# Altium integrated library Vishay Vitramon Ceramic Dipped Capacitor.IntLib: 3117 symbols (part 4 of 35)
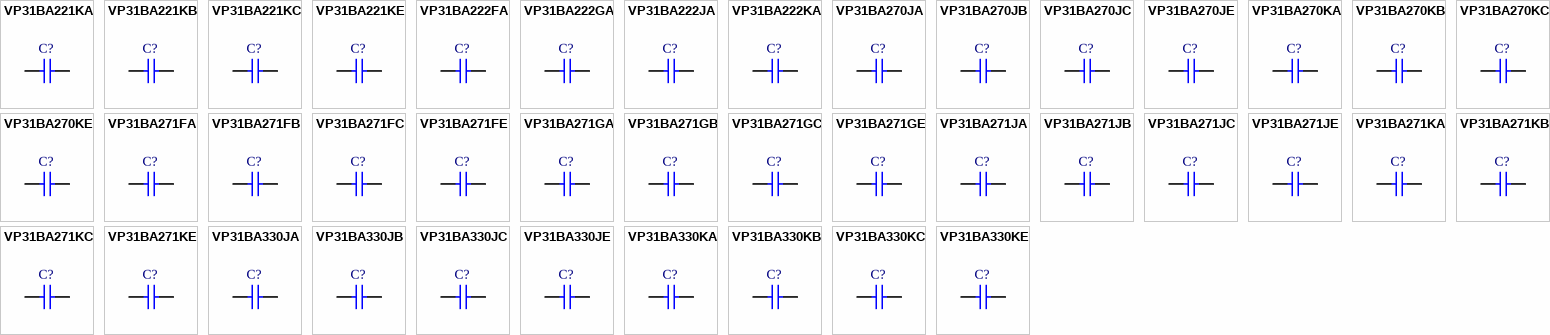
[diagram p80: symbols VP31BA221KA to VP31BA330KE]

## VP31BA271KA
designator C?
Dipped Radial Multilayer Ceramic Capacitor COG (NPO): 270pF, 50/63V; Note: See Datasheet for other packages & tolerances; Published: 17-Dec-2003; DatasheetDocument: 2-Jan-2002; PackageDocument: 8-Feb-2002; PackageReference: VP31-2.5; Publisher: Altium Limited; ComponentLink1Description: Manufacturer Link; ComponentLink1URL: http://www.vishay.com/; Value: 270pF
footprint VP31-2.5 (Capacitor, Ceramic, Thru-Hole, Dipped Radial; Body 4 x 2.5 mm (WxT) Pin Spacing 2.54 mm (typ))
simulation model CAP (Capacitor)
signal-integrity model Cap
pins: 1, 2

## VP31BA271KB
designator C?
Dipped Radial Multilayer Ceramic Capacitor COG (NPO): 270pF, 100V; Note: See Datasheet for other packages & tolerances; Published: 17-Dec-2003; DatasheetDocument: 2-Jan-2002; PackageDocument: 8-Feb-2002; PackageReference: VP31-2.5; Publisher: Altium Limited; ComponentLink1Description: Manufacturer Link; ComponentLink1URL: http://www.vishay.com/; Value: 270pF
footprint VP31-2.5 (Capacitor, Ceramic, Thru-Hole, Dipped Radial; Body 4 x 2.5 mm (WxT) Pin Spacing 2.54 mm (typ))
simulation model CAP (Capacitor)
signal-integrity model Cap
pins: 1, 2

## VP31BA271KC
designator C?
Dipped Radial Multilayer Ceramic Capacitor COG (NPO): 270pF, 200V; Published: 17-Dec-2003; DatasheetDocument: 7-Jan-2002; PackageDocument: 7-Jan-2002; PackageReference: VP31-3.2; Publisher: Altium Limited; ComponentLink1Description: Manufacturer Link; ComponentLink1URL: http://www.vishay.com/; Value: 270pF
footprint VP31-3.2 (Capacitor, Ceramic, Thru-Hole, Dipped Radial; Body 4 x 3.2 mm (WxT) Pin Spacing 2.54 mm (typ))
simulation model CAP (Capacitor)
signal-integrity model Cap
pins: 1, 2

## VP31BA271KE
designator C?
Dipped Radial Multilayer Ceramic Capacitor COG (NPO): 270pF, 500V; Published: 17-Dec-2003; DatasheetDocument: 7-Jan-2002; PackageDocument: 7-Jan-2002; PackageReference: VP31-3.2; Publisher: Altium Limited; ComponentLink1Description: Manufacturer Link; ComponentLink1URL: http://www.vishay.com/; Value: 270pF
footprint VP31-3.2 (Capacitor, Ceramic, Thru-Hole, Dipped Radial; Body 4 x 3.2 mm (WxT) Pin Spacing 2.54 mm (typ))
simulation model CAP (Capacitor)
signal-integrity model Cap
pins: 1, 2

## VP31BA330JA
designator C?
Dipped Radial Multilayer Ceramic Capacitor COG (NPO): 33pF, 50/63V; Note: See Datasheet for other packages & tolerances; Published: 17-Dec-2003; DatasheetDocument: 2-Jan-2002; PackageDocument: 8-Feb-2002; PackageReference: VP31-2.5; Publisher: Altium Limited; ComponentLink1Description: Manufacturer Link; ComponentLink1URL: http://www.vishay.com/; Value: 33pF
footprint VP31-2.5 (Capacitor, Ceramic, Thru-Hole, Dipped Radial; Body 4 x 2.5 mm (WxT) Pin Spacing 2.54 mm (typ))
simulation model CAP (Capacitor)
signal-integrity model Cap
pins: 1, 2

## VP31BA330JB
designator C?
Dipped Radial Multilayer Ceramic Capacitor COG (NPO): 33pF, 100V; Note: See Datasheet for other packages & tolerances; Published: 17-Dec-2003; DatasheetDocument: 2-Jan-2002; PackageDocument: 8-Feb-2002; PackageReference: VP31-2.5; Publisher: Altium Limited; ComponentLink1Description: Manufacturer Link; ComponentLink1URL: http://www.vishay.com/; Value: 33pF
footprint VP31-2.5 (Capacitor, Ceramic, Thru-Hole, Dipped Radial; Body 4 x 2.5 mm (WxT) Pin Spacing 2.54 mm (typ))
simulation model CAP (Capacitor)
signal-integrity model Cap
pins: 1, 2

## VP31BA330JC
designator C?
Dipped Radial Multilayer Ceramic Capacitor COG (NPO): 33pF, 200V; Published: 17-Dec-2003; DatasheetDocument: 7-Jan-2002; PackageDocument: 7-Jan-2002; PackageReference: VP31-3.2; Publisher: Altium Limited; ComponentLink1Description: Manufacturer Link; ComponentLink1URL: http://www.vishay.com/; Value: 33pF
footprint VP31-3.2 (Capacitor, Ceramic, Thru-Hole, Dipped Radial; Body 4 x 3.2 mm (WxT) Pin Spacing 2.54 mm (typ))
simulation model CAP (Capacitor)
signal-integrity model Cap
pins: 1, 2

## VP31BA330JE
designator C?
Dipped Radial Multilayer Ceramic Capacitor COG (NPO): 33pF, 500V; Published: 17-Dec-2003; DatasheetDocument: 7-Jan-2002; PackageDocument: 7-Jan-2002; PackageReference: VP31-3.2; Publisher: Altium Limited; ComponentLink1Description: Manufacturer Link; ComponentLink1URL: http://www.vishay.com/; Value: 33pF
footprint VP31-3.2 (Capacitor, Ceramic, Thru-Hole, Dipped Radial; Body 4 x 3.2 mm (WxT) Pin Spacing 2.54 mm (typ))
simulation model CAP (Capacitor)
signal-integrity model Cap
pins: 1, 2

## VP31BA330KA
designator C?
Dipped Radial Multilayer Ceramic Capacitor COG (NPO): 33pF, 50/63V; Note: See Datasheet for other packages & tolerances; Published: 17-Dec-2003; DatasheetDocument: 2-Jan-2002; PackageDocument: 8-Feb-2002; PackageReference: VP31-2.5; Publisher: Altium Limited; ComponentLink1Description: Manufacturer Link; ComponentLink1URL: http://www.vishay.com/; Value: 33pF
footprint VP31-2.5 (Capacitor, Ceramic, Thru-Hole, Dipped Radial; Body 4 x 2.5 mm (WxT) Pin Spacing 2.54 mm (typ))
simulation model CAP (Capacitor)
signal-integrity model Cap
pins: 1, 2

## VP31BA330KB
designator C?
Dipped Radial Multilayer Ceramic Capacitor COG (NPO): 33pF, 100V; Note: See Datasheet for other packages & tolerances; Published: 17-Dec-2003; DatasheetDocument: 2-Jan-2002; PackageDocument: 8-Feb-2002; PackageReference: VP31-2.5; Publisher: Altium Limited; ComponentLink1Description: Manufacturer Link; ComponentLink1URL: http://www.vishay.com/; Value: 33pF
footprint VP31-2.5 (Capacitor, Ceramic, Thru-Hole, Dipped Radial; Body 4 x 2.5 mm (WxT) Pin Spacing 2.54 mm (typ))
simulation model CAP (Capacitor)
signal-integrity model Cap
pins: 1, 2

## VP31BA330KC
designator C?
Dipped Radial Multilayer Ceramic Capacitor COG (NPO): 33pF, 200V; Published: 17-Dec-2003; DatasheetDocument: 7-Jan-2002; PackageDocument: 7-Jan-2002; PackageReference: VP31-3.2; Publisher: Altium Limited; ComponentLink1Description: Manufacturer Link; ComponentLink1URL: http://www.vishay.com/; Value: 33pF
footprint VP31-3.2 (Capacitor, Ceramic, Thru-Hole, Dipped Radial; Body 4 x 3.2 mm (WxT) Pin Spacing 2.54 mm (typ))
simulation model CAP (Capacitor)
signal-integrity model Cap
pins: 1, 2

## VP31BA330KE
designator C?
Dipped Radial Multilayer Ceramic Capacitor COG (NPO): 33pF, 500V; Published: 17-Dec-2003; DatasheetDocument: 7-Jan-2002; PackageDocument: 7-Jan-2002; PackageReference: VP31-3.2; Publisher: Altium Limited; ComponentLink1Description: Manufacturer Link; ComponentLink1URL: http://www.vishay.com/; Value: 33pF
footprint VP31-3.2 (Capacitor, Ceramic, Thru-Hole, Dipped Radial; Body 4 x 3.2 mm (WxT) Pin Spacing 2.54 mm (typ))
simulation model CAP (Capacitor)
signal-integrity model Cap
pins: 1, 2

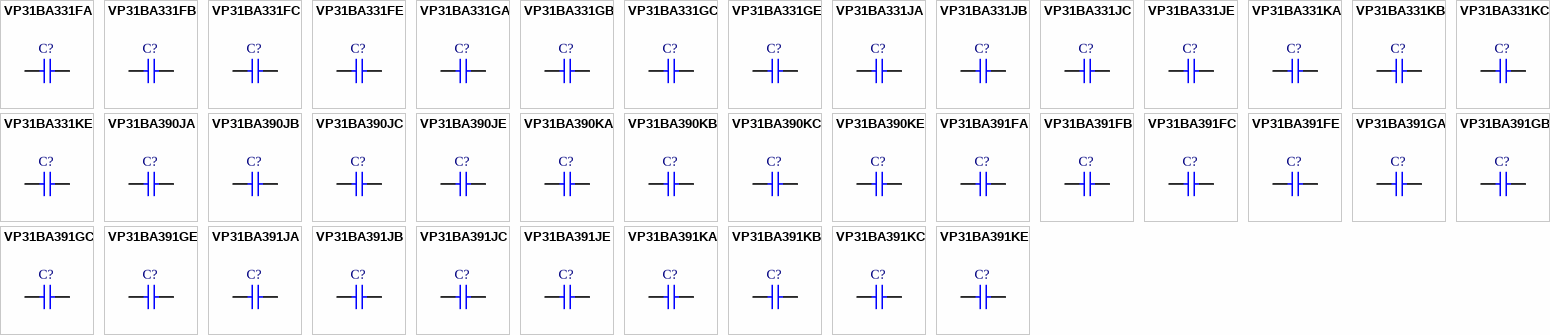
[diagram p7: symbols VP31BA331FA to VP31BA391KE]

## VP31BA331FA
designator C?
Dipped Radial Multilayer Ceramic Capacitor COG (NPO): 330pF, 50/63V; Note: See Datasheet for other packages & tolerances; Published: 17-Dec-2003; DatasheetDocument: 2-Jan-2002; PackageDocument: 8-Feb-2002; PackageReference: VP31-2.5; Publisher: Altium Limited; ComponentLink1Description: Manufacturer Link; ComponentLink1URL: http://www.vishay.com/; Value: 330pF
footprint VP31-2.5 (Capacitor, Ceramic, Thru-Hole, Dipped Radial; Body 4 x 2.5 mm (WxT) Pin Spacing 2.54 mm (typ))
simulation model CAP (Capacitor)
signal-integrity model Cap
pins: 1, 2

## VP31BA331FB
designator C?
Dipped Radial Multilayer Ceramic Capacitor COG (NPO): 330pF, 100V; Note: See Datasheet for other packages & tolerances; Published: 17-Dec-2003; DatasheetDocument: 2-Jan-2002; PackageDocument: 8-Feb-2002; PackageReference: VP31-2.5; Publisher: Altium Limited; ComponentLink1Description: Manufacturer Link; ComponentLink1URL: http://www.vishay.com/; Value: 330pF
footprint VP31-2.5 (Capacitor, Ceramic, Thru-Hole, Dipped Radial; Body 4 x 2.5 mm (WxT) Pin Spacing 2.54 mm (typ))
simulation model CAP (Capacitor)
signal-integrity model Cap
pins: 1, 2

## VP31BA331FC
designator C?
Dipped Radial Multilayer Ceramic Capacitor COG (NPO): 330pF, 200V; Published: 17-Dec-2003; DatasheetDocument: 7-Jan-2002; PackageDocument: 7-Jan-2002; PackageReference: VP31-3.2; Publisher: Altium Limited; ComponentLink1Description: Manufacturer Link; ComponentLink1URL: http://www.vishay.com/; Value: 330pF
footprint VP31-3.2 (Capacitor, Ceramic, Thru-Hole, Dipped Radial; Body 4 x 3.2 mm (WxT) Pin Spacing 2.54 mm (typ))
simulation model CAP (Capacitor)
signal-integrity model Cap
pins: 1, 2

## VP31BA331FE
designator C?
Dipped Radial Multilayer Ceramic Capacitor COG (NPO): 330pF, 500V; Published: 17-Dec-2003; DatasheetDocument: 7-Jan-2002; PackageDocument: 7-Jan-2002; PackageReference: VP31-3.2; Publisher: Altium Limited; ComponentLink1Description: Manufacturer Link; ComponentLink1URL: http://www.vishay.com/; Value: 330pF
footprint VP31-3.2 (Capacitor, Ceramic, Thru-Hole, Dipped Radial; Body 4 x 3.2 mm (WxT) Pin Spacing 2.54 mm (typ))
simulation model CAP (Capacitor)
signal-integrity model Cap
pins: 1, 2

## VP31BA331GA
designator C?
Dipped Radial Multilayer Ceramic Capacitor COG (NPO): 330pF, 50/63V; Note: See Datasheet for other packages & tolerances; Published: 17-Dec-2003; DatasheetDocument: 2-Jan-2002; PackageDocument: 8-Feb-2002; PackageReference: VP31-2.5; Publisher: Altium Limited; ComponentLink1Description: Manufacturer Link; ComponentLink1URL: http://www.vishay.com/; Value: 330pF
footprint VP31-2.5 (Capacitor, Ceramic, Thru-Hole, Dipped Radial; Body 4 x 2.5 mm (WxT) Pin Spacing 2.54 mm (typ))
simulation model CAP (Capacitor)
signal-integrity model Cap
pins: 1, 2

## VP31BA331GB
designator C?
Dipped Radial Multilayer Ceramic Capacitor COG (NPO): 330pF, 100V; Note: See Datasheet for other packages & tolerances; Published: 17-Dec-2003; DatasheetDocument: 2-Jan-2002; PackageDocument: 8-Feb-2002; PackageReference: VP31-2.5; Publisher: Altium Limited; ComponentLink1Description: Manufacturer Link; ComponentLink1URL: http://www.vishay.com/; Value: 330pF
footprint VP31-2.5 (Capacitor, Ceramic, Thru-Hole, Dipped Radial; Body 4 x 2.5 mm (WxT) Pin Spacing 2.54 mm (typ))
simulation model CAP (Capacitor)
signal-integrity model Cap
pins: 1, 2

## VP31BA331GC
designator C?
Dipped Radial Multilayer Ceramic Capacitor COG (NPO): 330pF, 200V; Published: 17-Dec-2003; DatasheetDocument: 7-Jan-2002; PackageDocument: 7-Jan-2002; PackageReference: VP31-3.2; Publisher: Altium Limited; ComponentLink1Description: Manufacturer Link; ComponentLink1URL: http://www.vishay.com/; Value: 330pF
footprint VP31-3.2 (Capacitor, Ceramic, Thru-Hole, Dipped Radial; Body 4 x 3.2 mm (WxT) Pin Spacing 2.54 mm (typ))
simulation model CAP (Capacitor)
signal-integrity model Cap
pins: 1, 2

## VP31BA331GE
designator C?
Dipped Radial Multilayer Ceramic Capacitor COG (NPO): 330pF, 500V; Published: 17-Dec-2003; DatasheetDocument: 7-Jan-2002; PackageDocument: 7-Jan-2002; PackageReference: VP31-3.2; Publisher: Altium Limited; ComponentLink1Description: Manufacturer Link; ComponentLink1URL: http://www.vishay.com/; Value: 330pF
footprint VP31-3.2 (Capacitor, Ceramic, Thru-Hole, Dipped Radial; Body 4 x 3.2 mm (WxT) Pin Spacing 2.54 mm (typ))
simulation model CAP (Capacitor)
signal-integrity model Cap
pins: 1, 2

## VP31BA331JA
designator C?
Dipped Radial Multilayer Ceramic Capacitor COG (NPO): 330pF, 50/63V; Note: See Datasheet for other packages & tolerances; Published: 17-Dec-2003; DatasheetDocument: 2-Jan-2002; PackageDocument: 8-Feb-2002; PackageReference: VP31-2.5; Publisher: Altium Limited; ComponentLink1Description: Manufacturer Link; ComponentLink1URL: http://www.vishay.com/; Value: 330pF
footprint VP31-2.5 (Capacitor, Ceramic, Thru-Hole, Dipped Radial; Body 4 x 2.5 mm (WxT) Pin Spacing 2.54 mm (typ))
simulation model CAP (Capacitor)
signal-integrity model Cap
pins: 1, 2

## VP31BA331JB
designator C?
Dipped Radial Multilayer Ceramic Capacitor COG (NPO): 330pF, 100V; Note: See Datasheet for other packages & tolerances; Published: 17-Dec-2003; DatasheetDocument: 2-Jan-2002; PackageDocument: 8-Feb-2002; PackageReference: VP31-2.5; Publisher: Altium Limited; ComponentLink1Description: Manufacturer Link; ComponentLink1URL: http://www.vishay.com/; Value: 330pF
footprint VP31-2.5 (Capacitor, Ceramic, Thru-Hole, Dipped Radial; Body 4 x 2.5 mm (WxT) Pin Spacing 2.54 mm (typ))
simulation model CAP (Capacitor)
signal-integrity model Cap
pins: 1, 2

## VP31BA331JC
designator C?
Dipped Radial Multilayer Ceramic Capacitor COG (NPO): 330pF, 200V; Published: 17-Dec-2003; DatasheetDocument: 7-Jan-2002; PackageDocument: 7-Jan-2002; PackageReference: VP31-3.2; Publisher: Altium Limited; ComponentLink1Description: Manufacturer Link; ComponentLink1URL: http://www.vishay.com/; Value: 330pF
footprint VP31-3.2 (Capacitor, Ceramic, Thru-Hole, Dipped Radial; Body 4 x 3.2 mm (WxT) Pin Spacing 2.54 mm (typ))
simulation model CAP (Capacitor)
signal-integrity model Cap
pins: 1, 2

## VP31BA331JE
designator C?
Dipped Radial Multilayer Ceramic Capacitor COG (NPO): 330pF, 500V; Published: 17-Dec-2003; DatasheetDocument: 7-Jan-2002; PackageDocument: 7-Jan-2002; PackageReference: VP31-3.2; Publisher: Altium Limited; ComponentLink1Description: Manufacturer Link; ComponentLink1URL: http://www.vishay.com/; Value: 330pF
footprint VP31-3.2 (Capacitor, Ceramic, Thru-Hole, Dipped Radial; Body 4 x 3.2 mm (WxT) Pin Spacing 2.54 mm (typ))
simulation model CAP (Capacitor)
signal-integrity model Cap
pins: 1, 2

## VP31BA331KA
designator C?
Dipped Radial Multilayer Ceramic Capacitor COG (NPO): 330pF, 50/63V; Note: See Datasheet for other packages & tolerances; Published: 17-Dec-2003; DatasheetDocument: 2-Jan-2002; PackageDocument: 8-Feb-2002; PackageReference: VP31-2.5; Publisher: Altium Limited; ComponentLink1Description: Manufacturer Link; ComponentLink1URL: http://www.vishay.com/; Value: 330pF
footprint VP31-2.5 (Capacitor, Ceramic, Thru-Hole, Dipped Radial; Body 4 x 2.5 mm (WxT) Pin Spacing 2.54 mm (typ))
simulation model CAP (Capacitor)
signal-integrity model Cap
pins: 1, 2

## VP31BA331KB
designator C?
Dipped Radial Multilayer Ceramic Capacitor COG (NPO): 330pF, 100V; Note: See Datasheet for other packages & tolerances; Published: 17-Dec-2003; DatasheetDocument: 2-Jan-2002; PackageDocument: 8-Feb-2002; PackageReference: VP31-2.5; Publisher: Altium Limited; ComponentLink1Description: Manufacturer Link; ComponentLink1URL: http://www.vishay.com/; Value: 330pF
footprint VP31-2.5 (Capacitor, Ceramic, Thru-Hole, Dipped Radial; Body 4 x 2.5 mm (WxT) Pin Spacing 2.54 mm (typ))
simulation model CAP (Capacitor)
signal-integrity model Cap
pins: 1, 2

## VP31BA331KC
designator C?
Dipped Radial Multilayer Ceramic Capacitor COG (NPO): 330pF, 200V; Published: 17-Dec-2003; DatasheetDocument: 7-Jan-2002; PackageDocument: 7-Jan-2002; PackageReference: VP31-3.2; Publisher: Altium Limited; ComponentLink1Description: Manufacturer Link; ComponentLink1URL: http://www.vishay.com/; Value: 330pF
footprint VP31-3.2 (Capacitor, Ceramic, Thru-Hole, Dipped Radial; Body 4 x 3.2 mm (WxT) Pin Spacing 2.54 mm (typ))
simulation model CAP (Capacitor)
signal-integrity model Cap
pins: 1, 2

## VP31BA331KE
designator C?
Dipped Radial Multilayer Ceramic Capacitor COG (NPO): 330pF, 500V; Published: 17-Dec-2003; DatasheetDocument: 7-Jan-2002; PackageDocument: 7-Jan-2002; PackageReference: VP31-3.2; Publisher: Altium Limited; ComponentLink1Description: Manufacturer Link; ComponentLink1URL: http://www.vishay.com/; Value: 330pF
footprint VP31-3.2 (Capacitor, Ceramic, Thru-Hole, Dipped Radial; Body 4 x 3.2 mm (WxT) Pin Spacing 2.54 mm (typ))
simulation model CAP (Capacitor)
signal-integrity model Cap
pins: 1, 2

## VP31BA390JA
designator C?
Dipped Radial Multilayer Ceramic Capacitor COG (NPO): 39pF, 50/63V; Note: See Datasheet for other packages & tolerances; Published: 17-Dec-2003; DatasheetDocument: 2-Jan-2002; PackageDocument: 8-Feb-2002; PackageReference: VP31-2.5; Publisher: Altium Limited; ComponentLink1Description: Manufacturer Link; ComponentLink1URL: http://www.vishay.com/; Value: 39pF
footprint VP31-2.5 (Capacitor, Ceramic, Thru-Hole, Dipped Radial; Body 4 x 2.5 mm (WxT) Pin Spacing 2.54 mm (typ))
simulation model CAP (Capacitor)
signal-integrity model Cap
pins: 1, 2

## VP31BA390JB
designator C?
Dipped Radial Multilayer Ceramic Capacitor COG (NPO): 39pF, 100V; Note: See Datasheet for other packages & tolerances; Published: 17-Dec-2003; DatasheetDocument: 2-Jan-2002; PackageDocument: 8-Feb-2002; PackageReference: VP31-2.5; Publisher: Altium Limited; ComponentLink1Description: Manufacturer Link; ComponentLink1URL: http://www.vishay.com/; Value: 39pF
footprint VP31-2.5 (Capacitor, Ceramic, Thru-Hole, Dipped Radial; Body 4 x 2.5 mm (WxT) Pin Spacing 2.54 mm (typ))
simulation model CAP (Capacitor)
signal-integrity model Cap
pins: 1, 2

## VP31BA390JC
designator C?
Dipped Radial Multilayer Ceramic Capacitor COG (NPO): 39pF, 200V; Published: 17-Dec-2003; DatasheetDocument: 7-Jan-2002; PackageDocument: 7-Jan-2002; PackageReference: VP31-3.2; Publisher: Altium Limited; ComponentLink1Description: Manufacturer Link; ComponentLink1URL: http://www.vishay.com/; Value: 39pF
footprint VP31-3.2 (Capacitor, Ceramic, Thru-Hole, Dipped Radial; Body 4 x 3.2 mm (WxT) Pin Spacing 2.54 mm (typ))
simulation model CAP (Capacitor)
signal-integrity model Cap
pins: 1, 2

## VP31BA390JE
designator C?
Dipped Radial Multilayer Ceramic Capacitor COG (NPO): 39pF, 500V; Published: 17-Dec-2003; DatasheetDocument: 7-Jan-2002; PackageDocument: 7-Jan-2002; PackageReference: VP31-3.2; Publisher: Altium Limited; ComponentLink1Description: Manufacturer Link; ComponentLink1URL: http://www.vishay.com/; Value: 39pF
footprint VP31-3.2 (Capacitor, Ceramic, Thru-Hole, Dipped Radial; Body 4 x 3.2 mm (WxT) Pin Spacing 2.54 mm (typ))
simulation model CAP (Capacitor)
signal-integrity model Cap
pins: 1, 2

## VP31BA390KA
designator C?
Dipped Radial Multilayer Ceramic Capacitor COG (NPO): 39pF, 50/63V; Note: See Datasheet for other packages & tolerances; Published: 17-Dec-2003; DatasheetDocument: 2-Jan-2002; PackageDocument: 8-Feb-2002; PackageReference: VP31-2.5; Publisher: Altium Limited; ComponentLink1Description: Manufacturer Link; ComponentLink1URL: http://www.vishay.com/; Value: 39pF
footprint VP31-2.5 (Capacitor, Ceramic, Thru-Hole, Dipped Radial; Body 4 x 2.5 mm (WxT) Pin Spacing 2.54 mm (typ))
simulation model CAP (Capacitor)
signal-integrity model Cap
pins: 1, 2

## VP31BA390KB
designator C?
Dipped Radial Multilayer Ceramic Capacitor COG (NPO): 39pF, 100V; Note: See Datasheet for other packages & tolerances; Published: 17-Dec-2003; DatasheetDocument: 2-Jan-2002; PackageDocument: 8-Feb-2002; PackageReference: VP31-2.5; Publisher: Altium Limited; ComponentLink1Description: Manufacturer Link; ComponentLink1URL: http://www.vishay.com/; Value: 39pF
footprint VP31-2.5 (Capacitor, Ceramic, Thru-Hole, Dipped Radial; Body 4 x 2.5 mm (WxT) Pin Spacing 2.54 mm (typ))
simulation model CAP (Capacitor)
signal-integrity model Cap
pins: 1, 2

## VP31BA390KC
designator C?
Dipped Radial Multilayer Ceramic Capacitor COG (NPO): 39pF, 200V; Published: 17-Dec-2003; DatasheetDocument: 7-Jan-2002; PackageDocument: 7-Jan-2002; PackageReference: VP31-3.2; Publisher: Altium Limited; ComponentLink1Description: Manufacturer Link; ComponentLink1URL: http://www.vishay.com/; Value: 39pF
footprint VP31-3.2 (Capacitor, Ceramic, Thru-Hole, Dipped Radial; Body 4 x 3.2 mm (WxT) Pin Spacing 2.54 mm (typ))
simulation model CAP (Capacitor)
signal-integrity model Cap
pins: 1, 2

## VP31BA390KE
designator C?
Dipped Radial Multilayer Ceramic Capacitor COG (NPO): 39pF, 500V; Published: 17-Dec-2003; DatasheetDocument: 7-Jan-2002; PackageDocument: 7-Jan-2002; PackageReference: VP31-3.2; Publisher: Altium Limited; ComponentLink1Description: Manufacturer Link; ComponentLink1URL: http://www.vishay.com/; Value: 39pF
footprint VP31-3.2 (Capacitor, Ceramic, Thru-Hole, Dipped Radial; Body 4 x 3.2 mm (WxT) Pin Spacing 2.54 mm (typ))
simulation model CAP (Capacitor)
signal-integrity model Cap
pins: 1, 2

## VP31BA391FA
designator C?
Dipped Radial Multilayer Ceramic Capacitor COG (NPO): 390pF, 50/63V; Note: See Datasheet for other packages & tolerances; Published: 17-Dec-2003; DatasheetDocument: 2-Jan-2002; PackageDocument: 8-Feb-2002; PackageReference: VP31-2.5; Publisher: Altium Limited; ComponentLink1Description: Manufacturer Link; ComponentLink1URL: http://www.vishay.com/; Value: 390pF
footprint VP31-2.5 (Capacitor, Ceramic, Thru-Hole, Dipped Radial; Body 4 x 2.5 mm (WxT) Pin Spacing 2.54 mm (typ))
simulation model CAP (Capacitor)
signal-integrity model Cap
pins: 1, 2

## VP31BA391FB
designator C?
Dipped Radial Multilayer Ceramic Capacitor COG (NPO): 390pF, 100V; Note: See Datasheet for other packages & tolerances; Published: 17-Dec-2003; DatasheetDocument: 2-Jan-2002; PackageDocument: 8-Feb-2002; PackageReference: VP31-2.5; Publisher: Altium Limited; ComponentLink1Description: Manufacturer Link; ComponentLink1URL: http://www.vishay.com/; Value: 390pF
footprint VP31-2.5 (Capacitor, Ceramic, Thru-Hole, Dipped Radial; Body 4 x 2.5 mm (WxT) Pin Spacing 2.54 mm (typ))
simulation model CAP (Capacitor)
signal-integrity model Cap
pins: 1, 2

## VP31BA391FC
designator C?
Dipped Radial Multilayer Ceramic Capacitor COG (NPO): 390pF, 200V; Published: 17-Dec-2003; DatasheetDocument: 7-Jan-2002; PackageDocument: 7-Jan-2002; PackageReference: VP31-3.2; Publisher: Altium Limited; ComponentLink1Description: Manufacturer Link; ComponentLink1URL: http://www.vishay.com/; Value: 390pF
footprint VP31-3.2 (Capacitor, Ceramic, Thru-Hole, Dipped Radial; Body 4 x 3.2 mm (WxT) Pin Spacing 2.54 mm (typ))
simulation model CAP (Capacitor)
signal-integrity model Cap
pins: 1, 2

## VP31BA391FE
designator C?
Dipped Radial Multilayer Ceramic Capacitor COG (NPO): 390pF, 500V; Published: 17-Dec-2003; DatasheetDocument: 7-Jan-2002; PackageDocument: 7-Jan-2002; PackageReference: VP31-3.2; Publisher: Altium Limited; ComponentLink1Description: Manufacturer Link; ComponentLink1URL: http://www.vishay.com/; Value: 390pF
footprint VP31-3.2 (Capacitor, Ceramic, Thru-Hole, Dipped Radial; Body 4 x 3.2 mm (WxT) Pin Spacing 2.54 mm (typ))
simulation model CAP (Capacitor)
signal-integrity model Cap
pins: 1, 2

## VP31BA391GA
designator C?
Dipped Radial Multilayer Ceramic Capacitor COG (NPO): 390pF, 50/63V; Note: See Datasheet for other packages & tolerances; Published: 17-Dec-2003; DatasheetDocument: 2-Jan-2002; PackageDocument: 8-Feb-2002; PackageReference: VP31-2.5; Publisher: Altium Limited; ComponentLink1Description: Manufacturer Link; ComponentLink1URL: http://www.vishay.com/; Value: 390pF
footprint VP31-2.5 (Capacitor, Ceramic, Thru-Hole, Dipped Radial; Body 4 x 2.5 mm (WxT) Pin Spacing 2.54 mm (typ))
simulation model CAP (Capacitor)
signal-integrity model Cap
pins: 1, 2

## VP31BA391GB
designator C?
Dipped Radial Multilayer Ceramic Capacitor COG (NPO): 390pF, 100V; Note: See Datasheet for other packages & tolerances; Published: 17-Dec-2003; DatasheetDocument: 2-Jan-2002; PackageDocument: 8-Feb-2002; PackageReference: VP31-2.5; Publisher: Altium Limited; ComponentLink1Description: Manufacturer Link; ComponentLink1URL: http://www.vishay.com/; Value: 390pF
footprint VP31-2.5 (Capacitor, Ceramic, Thru-Hole, Dipped Radial; Body 4 x 2.5 mm (WxT) Pin Spacing 2.54 mm (typ))
simulation model CAP (Capacitor)
signal-integrity model Cap
pins: 1, 2

## VP31BA391GC
designator C?
Dipped Radial Multilayer Ceramic Capacitor COG (NPO): 390pF, 200V; Published: 17-Dec-2003; DatasheetDocument: 7-Jan-2002; PackageDocument: 7-Jan-2002; PackageReference: VP31-3.2; Publisher: Altium Limited; ComponentLink1Description: Manufacturer Link; ComponentLink1URL: http://www.vishay.com/; Value: 390pF
footprint VP31-3.2 (Capacitor, Ceramic, Thru-Hole, Dipped Radial; Body 4 x 3.2 mm (WxT) Pin Spacing 2.54 mm (typ))
simulation model CAP (Capacitor)
signal-integrity model Cap
pins: 1, 2

## VP31BA391GE
designator C?
Dipped Radial Multilayer Ceramic Capacitor COG (NPO): 390pF, 500V; Published: 17-Dec-2003; DatasheetDocument: 7-Jan-2002; PackageDocument: 7-Jan-2002; PackageReference: VP31-3.2; Publisher: Altium Limited; ComponentLink1Description: Manufacturer Link; ComponentLink1URL: http://www.vishay.com/; Value: 390pF
footprint VP31-3.2 (Capacitor, Ceramic, Thru-Hole, Dipped Radial; Body 4 x 3.2 mm (WxT) Pin Spacing 2.54 mm (typ))
simulation model CAP (Capacitor)
signal-integrity model Cap
pins: 1, 2

## VP31BA391JA
designator C?
Dipped Radial Multilayer Ceramic Capacitor COG (NPO): 390pF, 50/63V; Note: See Datasheet for other packages & tolerances; Published: 17-Dec-2003; DatasheetDocument: 2-Jan-2002; PackageDocument: 8-Feb-2002; PackageReference: VP31-2.5; Publisher: Altium Limited; ComponentLink1Description: Manufacturer Link; ComponentLink1URL: http://www.vishay.com/; Value: 390pF
footprint VP31-2.5 (Capacitor, Ceramic, Thru-Hole, Dipped Radial; Body 4 x 2.5 mm (WxT) Pin Spacing 2.54 mm (typ))
simulation model CAP (Capacitor)
signal-integrity model Cap
pins: 1, 2

## VP31BA391JB
designator C?
Dipped Radial Multilayer Ceramic Capacitor COG (NPO): 390pF, 100V; Note: See Datasheet for other packages & tolerances; Published: 17-Dec-2003; DatasheetDocument: 2-Jan-2002; PackageDocument: 8-Feb-2002; PackageReference: VP31-2.5; Publisher: Altium Limited; ComponentLink1Description: Manufacturer Link; ComponentLink1URL: http://www.vishay.com/; Value: 390pF
footprint VP31-2.5 (Capacitor, Ceramic, Thru-Hole, Dipped Radial; Body 4 x 2.5 mm (WxT) Pin Spacing 2.54 mm (typ))
simulation model CAP (Capacitor)
signal-integrity model Cap
pins: 1, 2

## VP31BA391JC
designator C?
Dipped Radial Multilayer Ceramic Capacitor COG (NPO): 390pF, 200V; Published: 17-Dec-2003; DatasheetDocument: 7-Jan-2002; PackageDocument: 7-Jan-2002; PackageReference: VP31-3.2; Publisher: Altium Limited; ComponentLink1Description: Manufacturer Link; ComponentLink1URL: http://www.vishay.com/; Value: 390pF
footprint VP31-3.2 (Capacitor, Ceramic, Thru-Hole, Dipped Radial; Body 4 x 3.2 mm (WxT) Pin Spacing 2.54 mm (typ))
simulation model CAP (Capacitor)
signal-integrity model Cap
pins: 1, 2

## VP31BA391JE
designator C?
Dipped Radial Multilayer Ceramic Capacitor COG (NPO): 390pF, 500V; Published: 17-Dec-2003; DatasheetDocument: 7-Jan-2002; PackageDocument: 7-Jan-2002; PackageReference: VP31-3.2; Publisher: Altium Limited; ComponentLink1Description: Manufacturer Link; ComponentLink1URL: http://www.vishay.com/; Value: 390pF
footprint VP31-3.2 (Capacitor, Ceramic, Thru-Hole, Dipped Radial; Body 4 x 3.2 mm (WxT) Pin Spacing 2.54 mm (typ))
simulation model CAP (Capacitor)
signal-integrity model Cap
pins: 1, 2

## VP31BA391KA
designator C?
Dipped Radial Multilayer Ceramic Capacitor COG (NPO): 390pF, 50/63V; Note: See Datasheet for other packages & tolerances; Published: 17-Dec-2003; DatasheetDocument: 2-Jan-2002; PackageDocument: 8-Feb-2002; PackageReference: VP31-2.5; Publisher: Altium Limited; ComponentLink1Description: Manufacturer Link; ComponentLink1URL: http://www.vishay.com/; Value: 390pF
footprint VP31-2.5 (Capacitor, Ceramic, Thru-Hole, Dipped Radial; Body 4 x 2.5 mm (WxT) Pin Spacing 2.54 mm (typ))
simulation model CAP (Capacitor)
signal-integrity model Cap
pins: 1, 2

## VP31BA391KB
designator C?
Dipped Radial Multilayer Ceramic Capacitor COG (NPO): 390pF, 100V; Note: See Datasheet for other packages & tolerances; Published: 17-Dec-2003; DatasheetDocument: 2-Jan-2002; PackageDocument: 8-Feb-2002; PackageReference: VP31-2.5; Publisher: Altium Limited; ComponentLink1Description: Manufacturer Link; ComponentLink1URL: http://www.vishay.com/; Value: 390pF
footprint VP31-2.5 (Capacitor, Ceramic, Thru-Hole, Dipped Radial; Body 4 x 2.5 mm (WxT) Pin Spacing 2.54 mm (typ))
simulation model CAP (Capacitor)
signal-integrity model Cap
pins: 1, 2

## VP31BA391KC
designator C?
Dipped Radial Multilayer Ceramic Capacitor COG (NPO): 390pF, 200V; Published: 17-Dec-2003; DatasheetDocument: 7-Jan-2002; PackageDocument: 7-Jan-2002; PackageReference: VP31-3.2; Publisher: Altium Limited; ComponentLink1Description: Manufacturer Link; ComponentLink1URL: http://www.vishay.com/; Value: 390pF
footprint VP31-3.2 (Capacitor, Ceramic, Thru-Hole, Dipped Radial; Body 4 x 3.2 mm (WxT) Pin Spacing 2.54 mm (typ))
simulation model CAP (Capacitor)
signal-integrity model Cap
pins: 1, 2

## VP31BA391KE
designator C?
Dipped Radial Multilayer Ceramic Capacitor COG (NPO): 390pF, 500V; Published: 17-Dec-2003; DatasheetDocument: 7-Jan-2002; PackageDocument: 7-Jan-2002; PackageReference: VP31-3.2; Publisher: Altium Limited; ComponentLink1Description: Manufacturer Link; ComponentLink1URL: http://www.vishay.com/; Value: 390pF
footprint VP31-3.2 (Capacitor, Ceramic, Thru-Hole, Dipped Radial; Body 4 x 3.2 mm (WxT) Pin Spacing 2.54 mm (typ))
simulation model CAP (Capacitor)
signal-integrity model Cap
pins: 1, 2

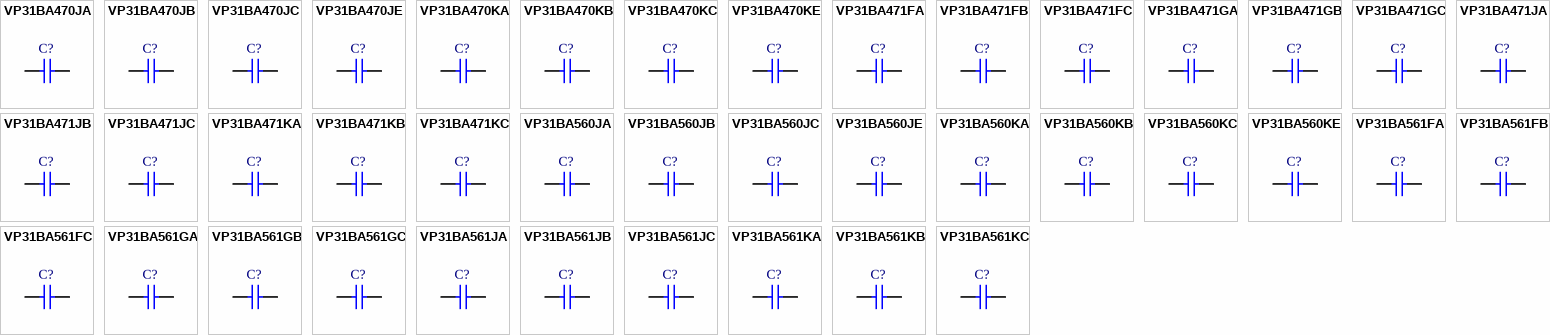
[diagram p8: symbols VP31BA470JA to VP31BA561KC]

## VP31BA470JA
designator C?
Dipped Radial Multilayer Ceramic Capacitor COG (NPO): 47pF, 50/63V; Note: See Datasheet for other packages & tolerances; Published: 17-Dec-2003; DatasheetDocument: 2-Jan-2002; PackageDocument: 8-Feb-2002; PackageReference: VP31-2.5; Publisher: Altium Limited; ComponentLink1Description: Manufacturer Link; ComponentLink1URL: http://www.vishay.com/; Value: 47pF
footprint VP31-2.5 (Capacitor, Ceramic, Thru-Hole, Dipped Radial; Body 4 x 2.5 mm (WxT) Pin Spacing 2.54 mm (typ))
simulation model CAP (Capacitor)
signal-integrity model Cap
pins: 1, 2

## VP31BA470JB
designator C?
Dipped Radial Multilayer Ceramic Capacitor COG (NPO): 47pF, 100V; Note: See Datasheet for other packages & tolerances; Published: 17-Dec-2003; DatasheetDocument: 2-Jan-2002; PackageDocument: 8-Feb-2002; PackageReference: VP31-2.5; Publisher: Altium Limited; ComponentLink1Description: Manufacturer Link; ComponentLink1URL: http://www.vishay.com/; Value: 47pF
footprint VP31-2.5 (Capacitor, Ceramic, Thru-Hole, Dipped Radial; Body 4 x 2.5 mm (WxT) Pin Spacing 2.54 mm (typ))
simulation model CAP (Capacitor)
signal-integrity model Cap
pins: 1, 2

## VP31BA470JC
designator C?
Dipped Radial Multilayer Ceramic Capacitor COG (NPO): 47pF, 200V; Published: 17-Dec-2003; DatasheetDocument: 7-Jan-2002; PackageDocument: 7-Jan-2002; PackageReference: VP31-3.2; Publisher: Altium Limited; ComponentLink1Description: Manufacturer Link; ComponentLink1URL: http://www.vishay.com/; Value: 47pF
footprint VP31-3.2 (Capacitor, Ceramic, Thru-Hole, Dipped Radial; Body 4 x 3.2 mm (WxT) Pin Spacing 2.54 mm (typ))
simulation model CAP (Capacitor)
signal-integrity model Cap
pins: 1, 2

## VP31BA470JE
designator C?
Dipped Radial Multilayer Ceramic Capacitor COG (NPO): 47pF, 500V; Published: 17-Dec-2003; DatasheetDocument: 7-Jan-2002; PackageDocument: 7-Jan-2002; PackageReference: VP31-3.2; Publisher: Altium Limited; ComponentLink1Description: Manufacturer Link; ComponentLink1URL: http://www.vishay.com/; Value: 47pF
footprint VP31-3.2 (Capacitor, Ceramic, Thru-Hole, Dipped Radial; Body 4 x 3.2 mm (WxT) Pin Spacing 2.54 mm (typ))
simulation model CAP (Capacitor)
signal-integrity model Cap
pins: 1, 2

## VP31BA470KA
designator C?
Dipped Radial Multilayer Ceramic Capacitor COG (NPO): 47pF, 50/63V; Note: See Datasheet for other packages & tolerances; Published: 17-Dec-2003; DatasheetDocument: 2-Jan-2002; PackageDocument: 8-Feb-2002; PackageReference: VP31-2.5; Publisher: Altium Limited; ComponentLink1Description: Manufacturer Link; ComponentLink1URL: http://www.vishay.com/; Value: 47pF
footprint VP31-2.5 (Capacitor, Ceramic, Thru-Hole, Dipped Radial; Body 4 x 2.5 mm (WxT) Pin Spacing 2.54 mm (typ))
simulation model CAP (Capacitor)
signal-integrity model Cap
pins: 1, 2

## VP31BA470KB
designator C?
Dipped Radial Multilayer Ceramic Capacitor COG (NPO): 47pF, 100V; Note: See Datasheet for other packages & tolerances; Published: 17-Dec-2003; DatasheetDocument: 2-Jan-2002; PackageDocument: 8-Feb-2002; PackageReference: VP31-2.5; Publisher: Altium Limited; ComponentLink1Description: Manufacturer Link; ComponentLink1URL: http://www.vishay.com/; Value: 47pF
footprint VP31-2.5 (Capacitor, Ceramic, Thru-Hole, Dipped Radial; Body 4 x 2.5 mm (WxT) Pin Spacing 2.54 mm (typ))
simulation model CAP (Capacitor)
signal-integrity model Cap
pins: 1, 2

## VP31BA470KC
designator C?
Dipped Radial Multilayer Ceramic Capacitor COG (NPO): 47pF, 200V; Published: 17-Dec-2003; DatasheetDocument: 7-Jan-2002; PackageDocument: 7-Jan-2002; PackageReference: VP31-3.2; Publisher: Altium Limited; ComponentLink1Description: Manufacturer Link; ComponentLink1URL: http://www.vishay.com/; Value: 47pF
footprint VP31-3.2 (Capacitor, Ceramic, Thru-Hole, Dipped Radial; Body 4 x 3.2 mm (WxT) Pin Spacing 2.54 mm (typ))
simulation model CAP (Capacitor)
signal-integrity model Cap
pins: 1, 2

## VP31BA470KE
designator C?
Dipped Radial Multilayer Ceramic Capacitor COG (NPO): 47pF, 500V; Published: 17-Dec-2003; DatasheetDocument: 7-Jan-2002; PackageDocument: 7-Jan-2002; PackageReference: VP31-3.2; Publisher: Altium Limited; ComponentLink1Description: Manufacturer Link; ComponentLink1URL: http://www.vishay.com/; Value: 47pF
footprint VP31-3.2 (Capacitor, Ceramic, Thru-Hole, Dipped Radial; Body 4 x 3.2 mm (WxT) Pin Spacing 2.54 mm (typ))
simulation model CAP (Capacitor)
signal-integrity model Cap
pins: 1, 2

## VP31BA471FA
designator C?
Dipped Radial Multilayer Ceramic Capacitor COG (NPO): 470pF, 50/63V; Note: See Datasheet for other packages & tolerances; Published: 17-Dec-2003; DatasheetDocument: 2-Jan-2002; PackageDocument: 8-Feb-2002; PackageReference: VP31-2.5; Publisher: Altium Limited; ComponentLink1Description: Manufacturer Link; ComponentLink1URL: http://www.vishay.com/; Value: 470pF
footprint VP31-2.5 (Capacitor, Ceramic, Thru-Hole, Dipped Radial; Body 4 x 2.5 mm (WxT) Pin Spacing 2.54 mm (typ))
simulation model CAP (Capacitor)
signal-integrity model Cap
pins: 1, 2

## VP31BA471FB
designator C?
Dipped Radial Multilayer Ceramic Capacitor COG (NPO): 470pF, 100V; Note: See Datasheet for other packages & tolerances; Published: 17-Dec-2003; DatasheetDocument: 2-Jan-2002; PackageDocument: 8-Feb-2002; PackageReference: VP31-2.5; Publisher: Altium Limited; ComponentLink1Description: Manufacturer Link; ComponentLink1URL: http://www.vishay.com/; Value: 470pF
footprint VP31-2.5 (Capacitor, Ceramic, Thru-Hole, Dipped Radial; Body 4 x 2.5 mm (WxT) Pin Spacing 2.54 mm (typ))
simulation model CAP (Capacitor)
signal-integrity model Cap
pins: 1, 2

## VP31BA471FC
designator C?
Dipped Radial Multilayer Ceramic Capacitor COG (NPO): 470pF, 200V; Published: 17-Dec-2003; DatasheetDocument: 7-Jan-2002; PackageDocument: 7-Jan-2002; PackageReference: VP31-3.2; Publisher: Altium Limited; ComponentLink1Description: Manufacturer Link; ComponentLink1URL: http://www.vishay.com/; Value: 470pF
footprint VP31-3.2 (Capacitor, Ceramic, Thru-Hole, Dipped Radial; Body 4 x 3.2 mm (WxT) Pin Spacing 2.54 mm (typ))
simulation model CAP (Capacitor)
signal-integrity model Cap
pins: 1, 2

## VP31BA471GA
designator C?
Dipped Radial Multilayer Ceramic Capacitor COG (NPO): 470pF, 50/63V; Note: See Datasheet for other packages & tolerances; Published: 17-Dec-2003; DatasheetDocument: 2-Jan-2002; PackageDocument: 8-Feb-2002; PackageReference: VP31-2.5; Publisher: Altium Limited; ComponentLink1Description: Manufacturer Link; ComponentLink1URL: http://www.vishay.com/; Value: 470pF
footprint VP31-2.5 (Capacitor, Ceramic, Thru-Hole, Dipped Radial; Body 4 x 2.5 mm (WxT) Pin Spacing 2.54 mm (typ))
simulation model CAP (Capacitor)
signal-integrity model Cap
pins: 1, 2

## VP31BA471GB
designator C?
Dipped Radial Multilayer Ceramic Capacitor COG (NPO): 470pF, 100V; Note: See Datasheet for other packages & tolerances; Published: 17-Dec-2003; DatasheetDocument: 2-Jan-2002; PackageDocument: 8-Feb-2002; PackageReference: VP31-2.5; Publisher: Altium Limited; ComponentLink1Description: Manufacturer Link; ComponentLink1URL: http://www.vishay.com/; Value: 470pF
footprint VP31-2.5 (Capacitor, Ceramic, Thru-Hole, Dipped Radial; Body 4 x 2.5 mm (WxT) Pin Spacing 2.54 mm (typ))
simulation model CAP (Capacitor)
signal-integrity model Cap
pins: 1, 2

## VP31BA471GC
designator C?
Dipped Radial Multilayer Ceramic Capacitor COG (NPO): 470pF, 200V; Published: 17-Dec-2003; DatasheetDocument: 7-Jan-2002; PackageDocument: 7-Jan-2002; PackageReference: VP31-3.2; Publisher: Altium Limited; ComponentLink1Description: Manufacturer Link; ComponentLink1URL: http://www.vishay.com/; Value: 470pF
footprint VP31-3.2 (Capacitor, Ceramic, Thru-Hole, Dipped Radial; Body 4 x 3.2 mm (WxT) Pin Spacing 2.54 mm (typ))
simulation model CAP (Capacitor)
signal-integrity model Cap
pins: 1, 2

## VP31BA471JA
designator C?
Dipped Radial Multilayer Ceramic Capacitor COG (NPO): 470pF, 50/63V; Note: See Datasheet for other packages & tolerances; Published: 17-Dec-2003; DatasheetDocument: 2-Jan-2002; PackageDocument: 8-Feb-2002; PackageReference: VP31-2.5; Publisher: Altium Limited; ComponentLink1Description: Manufacturer Link; ComponentLink1URL: http://www.vishay.com/; Value: 470pF
footprint VP31-2.5 (Capacitor, Ceramic, Thru-Hole, Dipped Radial; Body 4 x 2.5 mm (WxT) Pin Spacing 2.54 mm (typ))
simulation model CAP (Capacitor)
signal-integrity model Cap
pins: 1, 2

## VP31BA471JB
designator C?
Dipped Radial Multilayer Ceramic Capacitor COG (NPO): 470pF, 100V; Note: See Datasheet for other packages & tolerances; Published: 17-Dec-2003; DatasheetDocument: 2-Jan-2002; PackageDocument: 8-Feb-2002; PackageReference: VP31-2.5; Publisher: Altium Limited; ComponentLink1Description: Manufacturer Link; ComponentLink1URL: http://www.vishay.com/; Value: 470pF
footprint VP31-2.5 (Capacitor, Ceramic, Thru-Hole, Dipped Radial; Body 4 x 2.5 mm (WxT) Pin Spacing 2.54 mm (typ))
simulation model CAP (Capacitor)
signal-integrity model Cap
pins: 1, 2

## VP31BA471JC
designator C?
Dipped Radial Multilayer Ceramic Capacitor COG (NPO): 470pF, 200V; Published: 17-Dec-2003; DatasheetDocument: 7-Jan-2002; PackageDocument: 7-Jan-2002; PackageReference: VP31-3.2; Publisher: Altium Limited; ComponentLink1Description: Manufacturer Link; ComponentLink1URL: http://www.vishay.com/; Value: 470pF
footprint VP31-3.2 (Capacitor, Ceramic, Thru-Hole, Dipped Radial; Body 4 x 3.2 mm (WxT) Pin Spacing 2.54 mm (typ))
simulation model CAP (Capacitor)
signal-integrity model Cap
pins: 1, 2

## VP31BA471KA
designator C?
Dipped Radial Multilayer Ceramic Capacitor COG (NPO): 470pF, 50/63V; Note: See Datasheet for other packages & tolerances; Published: 17-Dec-2003; DatasheetDocument: 2-Jan-2002; PackageDocument: 8-Feb-2002; PackageReference: VP31-2.5; Publisher: Altium Limited; ComponentLink1Description: Manufacturer Link; ComponentLink1URL: http://www.vishay.com/; Value: 470pF
footprint VP31-2.5 (Capacitor, Ceramic, Thru-Hole, Dipped Radial; Body 4 x 2.5 mm (WxT) Pin Spacing 2.54 mm (typ))
simulation model CAP (Capacitor)
signal-integrity model Cap
pins: 1, 2

## VP31BA471KB
designator C?
Dipped Radial Multilayer Ceramic Capacitor COG (NPO): 470pF, 100V; Note: See Datasheet for other packages & tolerances; Published: 17-Dec-2003; DatasheetDocument: 2-Jan-2002; PackageDocument: 8-Feb-2002; PackageReference: VP31-2.5; Publisher: Altium Limited; ComponentLink1Description: Manufacturer Link; ComponentLink1URL: http://www.vishay.com/; Value: 470pF
footprint VP31-2.5 (Capacitor, Ceramic, Thru-Hole, Dipped Radial; Body 4 x 2.5 mm (WxT) Pin Spacing 2.54 mm (typ))
simulation model CAP (Capacitor)
signal-integrity model Cap
pins: 1, 2

## VP31BA471KC
designator C?
Dipped Radial Multilayer Ceramic Capacitor COG (NPO): 470pF, 200V; Published: 17-Dec-2003; DatasheetDocument: 7-Jan-2002; PackageDocument: 7-Jan-2002; PackageReference: VP31-3.2; Publisher: Altium Limited; ComponentLink1Description: Manufacturer Link; ComponentLink1URL: http://www.vishay.com/; Value: 470pF
footprint VP31-3.2 (Capacitor, Ceramic, Thru-Hole, Dipped Radial; Body 4 x 3.2 mm (WxT) Pin Spacing 2.54 mm (typ))
simulation model CAP (Capacitor)
signal-integrity model Cap
pins: 1, 2

## VP31BA560JA
designator C?
Dipped Radial Multilayer Ceramic Capacitor COG (NPO): 56pF, 50/63V; Note: See Datasheet for other packages & tolerances; Published: 17-Dec-2003; DatasheetDocument: 2-Jan-2002; PackageDocument: 8-Feb-2002; PackageReference: VP31-2.5; Publisher: Altium Limited; ComponentLink1Description: Manufacturer Link; ComponentLink1URL: http://www.vishay.com/; Value: 56pF
footprint VP31-2.5 (Capacitor, Ceramic, Thru-Hole, Dipped Radial; Body 4 x 2.5 mm (WxT) Pin Spacing 2.54 mm (typ))
simulation model CAP (Capacitor)
signal-integrity model Cap
pins: 1, 2

## VP31BA560JB
designator C?
Dipped Radial Multilayer Ceramic Capacitor COG (NPO): 56pF, 100V; Note: See Datasheet for other packages & tolerances; Published: 17-Dec-2003; DatasheetDocument: 2-Jan-2002; PackageDocument: 8-Feb-2002; PackageReference: VP31-2.5; Publisher: Altium Limited; ComponentLink1Description: Manufacturer Link; ComponentLink1URL: http://www.vishay.com/; Value: 56pF
footprint VP31-2.5 (Capacitor, Ceramic, Thru-Hole, Dipped Radial; Body 4 x 2.5 mm (WxT) Pin Spacing 2.54 mm (typ))
simulation model CAP (Capacitor)
signal-integrity model Cap
pins: 1, 2

## VP31BA560JC
designator C?
Dipped Radial Multilayer Ceramic Capacitor COG (NPO): 56pF, 200V; Published: 17-Dec-2003; DatasheetDocument: 7-Jan-2002; PackageDocument: 7-Jan-2002; PackageReference: VP31-3.2; Publisher: Altium Limited; ComponentLink1Description: Manufacturer Link; ComponentLink1URL: http://www.vishay.com/; Value: 56pF
footprint VP31-3.2 (Capacitor, Ceramic, Thru-Hole, Dipped Radial; Body 4 x 3.2 mm (WxT) Pin Spacing 2.54 mm (typ))
simulation model CAP (Capacitor)
signal-integrity model Cap
pins: 1, 2

## VP31BA560JE
designator C?
Dipped Radial Multilayer Ceramic Capacitor COG (NPO): 56pF, 500V; Published: 17-Dec-2003; DatasheetDocument: 7-Jan-2002; PackageDocument: 7-Jan-2002; PackageReference: VP31-3.2; Publisher: Altium Limited; ComponentLink1Description: Manufacturer Link; ComponentLink1URL: http://www.vishay.com/; Value: 56pF
footprint VP31-3.2 (Capacitor, Ceramic, Thru-Hole, Dipped Radial; Body 4 x 3.2 mm (WxT) Pin Spacing 2.54 mm (typ))
simulation model CAP (Capacitor)
signal-integrity model Cap
pins: 1, 2

## VP31BA560KA
designator C?
Dipped Radial Multilayer Ceramic Capacitor COG (NPO): 56pF, 50/63V; Note: See Datasheet for other packages & tolerances; Published: 17-Dec-2003; DatasheetDocument: 2-Jan-2002; PackageDocument: 8-Feb-2002; PackageReference: VP31-2.5; Publisher: Altium Limited; ComponentLink1Description: Manufacturer Link; ComponentLink1URL: http://www.vishay.com/; Value: 56pF
footprint VP31-2.5 (Capacitor, Ceramic, Thru-Hole, Dipped Radial; Body 4 x 2.5 mm (WxT) Pin Spacing 2.54 mm (typ))
simulation model CAP (Capacitor)
signal-integrity model Cap
pins: 1, 2

## VP31BA560KB
designator C?
Dipped Radial Multilayer Ceramic Capacitor COG (NPO): 56pF, 100V; Note: See Datasheet for other packages & tolerances; Published: 17-Dec-2003; DatasheetDocument: 2-Jan-2002; PackageDocument: 8-Feb-2002; PackageReference: VP31-2.5; Publisher: Altium Limited; ComponentLink1Description: Manufacturer Link; ComponentLink1URL: http://www.vishay.com/; Value: 56pF
footprint VP31-2.5 (Capacitor, Ceramic, Thru-Hole, Dipped Radial; Body 4 x 2.5 mm (WxT) Pin Spacing 2.54 mm (typ))
simulation model CAP (Capacitor)
signal-integrity model Cap
pins: 1, 2

## VP31BA560KC
designator C?
Dipped Radial Multilayer Ceramic Capacitor COG (NPO): 56pF, 200V; Published: 17-Dec-2003; DatasheetDocument: 7-Jan-2002; PackageDocument: 7-Jan-2002; PackageReference: VP31-3.2; Publisher: Altium Limited; ComponentLink1Description: Manufacturer Link; ComponentLink1URL: http://www.vishay.com/; Value: 56pF
footprint VP31-3.2 (Capacitor, Ceramic, Thru-Hole, Dipped Radial; Body 4 x 3.2 mm (WxT) Pin Spacing 2.54 mm (typ))
simulation model CAP (Capacitor)
signal-integrity model Cap
pins: 1, 2

## VP31BA560KE
designator C?
Dipped Radial Multilayer Ceramic Capacitor COG (NPO): 56pF, 500V; Published: 17-Dec-2003; DatasheetDocument: 7-Jan-2002; PackageDocument: 7-Jan-2002; PackageReference: VP31-3.2; Publisher: Altium Limited; ComponentLink1Description: Manufacturer Link; ComponentLink1URL: http://www.vishay.com/; Value: 56pF
footprint VP31-3.2 (Capacitor, Ceramic, Thru-Hole, Dipped Radial; Body 4 x 3.2 mm (WxT) Pin Spacing 2.54 mm (typ))
simulation model CAP (Capacitor)
signal-integrity model Cap
pins: 1, 2

## VP31BA561FA
designator C?
Dipped Radial Multilayer Ceramic Capacitor COG (NPO): 560pF, 50/63V; Note: See Datasheet for other packages & tolerances; Published: 17-Dec-2003; DatasheetDocument: 2-Jan-2002; PackageDocument: 8-Feb-2002; PackageReference: VP31-2.5; Publisher: Altium Limited; ComponentLink1Description: Manufacturer Link; ComponentLink1URL: http://www.vishay.com/; Value: 560pF
footprint VP31-2.5 (Capacitor, Ceramic, Thru-Hole, Dipped Radial; Body 4 x 2.5 mm (WxT) Pin Spacing 2.54 mm (typ))
simulation model CAP (Capacitor)
signal-integrity model Cap
pins: 1, 2

## VP31BA561FB
designator C?
Dipped Radial Multilayer Ceramic Capacitor COG (NPO): 560pF, 100V; Note: See Datasheet for other packages & tolerances; Published: 17-Dec-2003; DatasheetDocument: 2-Jan-2002; PackageDocument: 8-Feb-2002; PackageReference: VP31-2.5; Publisher: Altium Limited; ComponentLink1Description: Manufacturer Link; ComponentLink1URL: http://www.vishay.com/; Value: 560pF
footprint VP31-2.5 (Capacitor, Ceramic, Thru-Hole, Dipped Radial; Body 4 x 2.5 mm (WxT) Pin Spacing 2.54 mm (typ))
simulation model CAP (Capacitor)
signal-integrity model Cap
pins: 1, 2

## VP31BA561FC
designator C?
Dipped Radial Multilayer Ceramic Capacitor COG (NPO): 560pF, 200V; Published: 17-Dec-2003; DatasheetDocument: 7-Jan-2002; PackageDocument: 7-Jan-2002; PackageReference: VP31-3.2; Publisher: Altium Limited; ComponentLink1Description: Manufacturer Link; ComponentLink1URL: http://www.vishay.com/; Value: 560pF
footprint VP31-3.2 (Capacitor, Ceramic, Thru-Hole, Dipped Radial; Body 4 x 3.2 mm (WxT) Pin Spacing 2.54 mm (typ))
simulation model CAP (Capacitor)
signal-integrity model Cap
pins: 1, 2

## VP31BA561GA
designator C?
Dipped Radial Multilayer Ceramic Capacitor COG (NPO): 560pF, 50/63V; Note: See Datasheet for other packages & tolerances; Published: 17-Dec-2003; DatasheetDocument: 2-Jan-2002; PackageDocument: 8-Feb-2002; PackageReference: VP31-2.5; Publisher: Altium Limited; ComponentLink1Description: Manufacturer Link; ComponentLink1URL: http://www.vishay.com/; Value: 560pF
footprint VP31-2.5 (Capacitor, Ceramic, Thru-Hole, Dipped Radial; Body 4 x 2.5 mm (WxT) Pin Spacing 2.54 mm (typ))
simulation model CAP (Capacitor)
signal-integrity model Cap
pins: 1, 2

## VP31BA561GB
designator C?
Dipped Radial Multilayer Ceramic Capacitor COG (NPO): 560pF, 100V; Note: See Datasheet for other packages & tolerances; Published: 17-Dec-2003; DatasheetDocument: 2-Jan-2002; PackageDocument: 8-Feb-2002; PackageReference: VP31-2.5; Publisher: Altium Limited; ComponentLink1Description: Manufacturer Link; ComponentLink1URL: http://www.vishay.com/; Value: 560pF
footprint VP31-2.5 (Capacitor, Ceramic, Thru-Hole, Dipped Radial; Body 4 x 2.5 mm (WxT) Pin Spacing 2.54 mm (typ))
simulation model CAP (Capacitor)
signal-integrity model Cap
pins: 1, 2

## VP31BA561GC
designator C?
Dipped Radial Multilayer Ceramic Capacitor COG (NPO): 560pF, 200V; Published: 17-Dec-2003; DatasheetDocument: 7-Jan-2002; PackageDocument: 7-Jan-2002; PackageReference: VP31-3.2; Publisher: Altium Limited; ComponentLink1Description: Manufacturer Link; ComponentLink1URL: http://www.vishay.com/; Value: 560pF
footprint VP31-3.2 (Capacitor, Ceramic, Thru-Hole, Dipped Radial; Body 4 x 3.2 mm (WxT) Pin Spacing 2.54 mm (typ))
simulation model CAP (Capacitor)
signal-integrity model Cap
pins: 1, 2

## VP31BA561JA
designator C?
Dipped Radial Multilayer Ceramic Capacitor COG (NPO): 560pF, 50/63V; Note: See Datasheet for other packages & tolerances; Published: 17-Dec-2003; DatasheetDocument: 2-Jan-2002; PackageDocument: 8-Feb-2002; PackageReference: VP31-2.5; Publisher: Altium Limited; ComponentLink1Description: Manufacturer Link; ComponentLink1URL: http://www.vishay.com/; Value: 560pF
footprint VP31-2.5 (Capacitor, Ceramic, Thru-Hole, Dipped Radial; Body 4 x 2.5 mm (WxT) Pin Spacing 2.54 mm (typ))
simulation model CAP (Capacitor)
signal-integrity model Cap
pins: 1, 2

## VP31BA561JB
designator C?
Dipped Radial Multilayer Ceramic Capacitor COG (NPO): 560pF, 100V; Note: See Datasheet for other packages & tolerances; Published: 17-Dec-2003; DatasheetDocument: 2-Jan-2002; PackageDocument: 8-Feb-2002; PackageReference: VP31-2.5; Publisher: Altium Limited; ComponentLink1Description: Manufacturer Link; ComponentLink1URL: http://www.vishay.com/; Value: 560pF
footprint VP31-2.5 (Capacitor, Ceramic, Thru-Hole, Dipped Radial; Body 4 x 2.5 mm (WxT) Pin Spacing 2.54 mm (typ))
simulation model CAP (Capacitor)
signal-integrity model Cap
pins: 1, 2

## VP31BA561JC
designator C?
Dipped Radial Multilayer Ceramic Capacitor COG (NPO): 560pF, 200V; Published: 17-Dec-2003; DatasheetDocument: 7-Jan-2002; PackageDocument: 7-Jan-2002; PackageReference: VP31-3.2; Publisher: Altium Limited; ComponentLink1Description: Manufacturer Link; ComponentLink1URL: http://www.vishay.com/; Value: 560pF
footprint VP31-3.2 (Capacitor, Ceramic, Thru-Hole, Dipped Radial; Body 4 x 3.2 mm (WxT) Pin Spacing 2.54 mm (typ))
simulation model CAP (Capacitor)
signal-integrity model Cap
pins: 1, 2

## VP31BA561KA
designator C?
Dipped Radial Multilayer Ceramic Capacitor COG (NPO): 560pF, 50/63V; Note: See Datasheet for other packages & tolerances; Published: 17-Dec-2003; DatasheetDocument: 2-Jan-2002; PackageDocument: 8-Feb-2002; PackageReference: VP31-2.5; Publisher: Altium Limited; ComponentLink1Description: Manufacturer Link; ComponentLink1URL: http://www.vishay.com/; Value: 560pF
footprint VP31-2.5 (Capacitor, Ceramic, Thru-Hole, Dipped Radial; Body 4 x 2.5 mm (WxT) Pin Spacing 2.54 mm (typ))
simulation model CAP (Capacitor)
signal-integrity model Cap
pins: 1, 2